# Altium footprint library ARM_Libary_DIL.PcbLib: 37 footprints (part 1 of 3)
Each footprint in its own frame and in the unit in brackets; x right, y up, seen from the top. Pads: shape width x height; smd on the part's side, far side on the other; paste and mask are expansions set on the pad; w line width, h text height; cw(c..) or ccw(c..) is an arc to the next point about the centre after c.
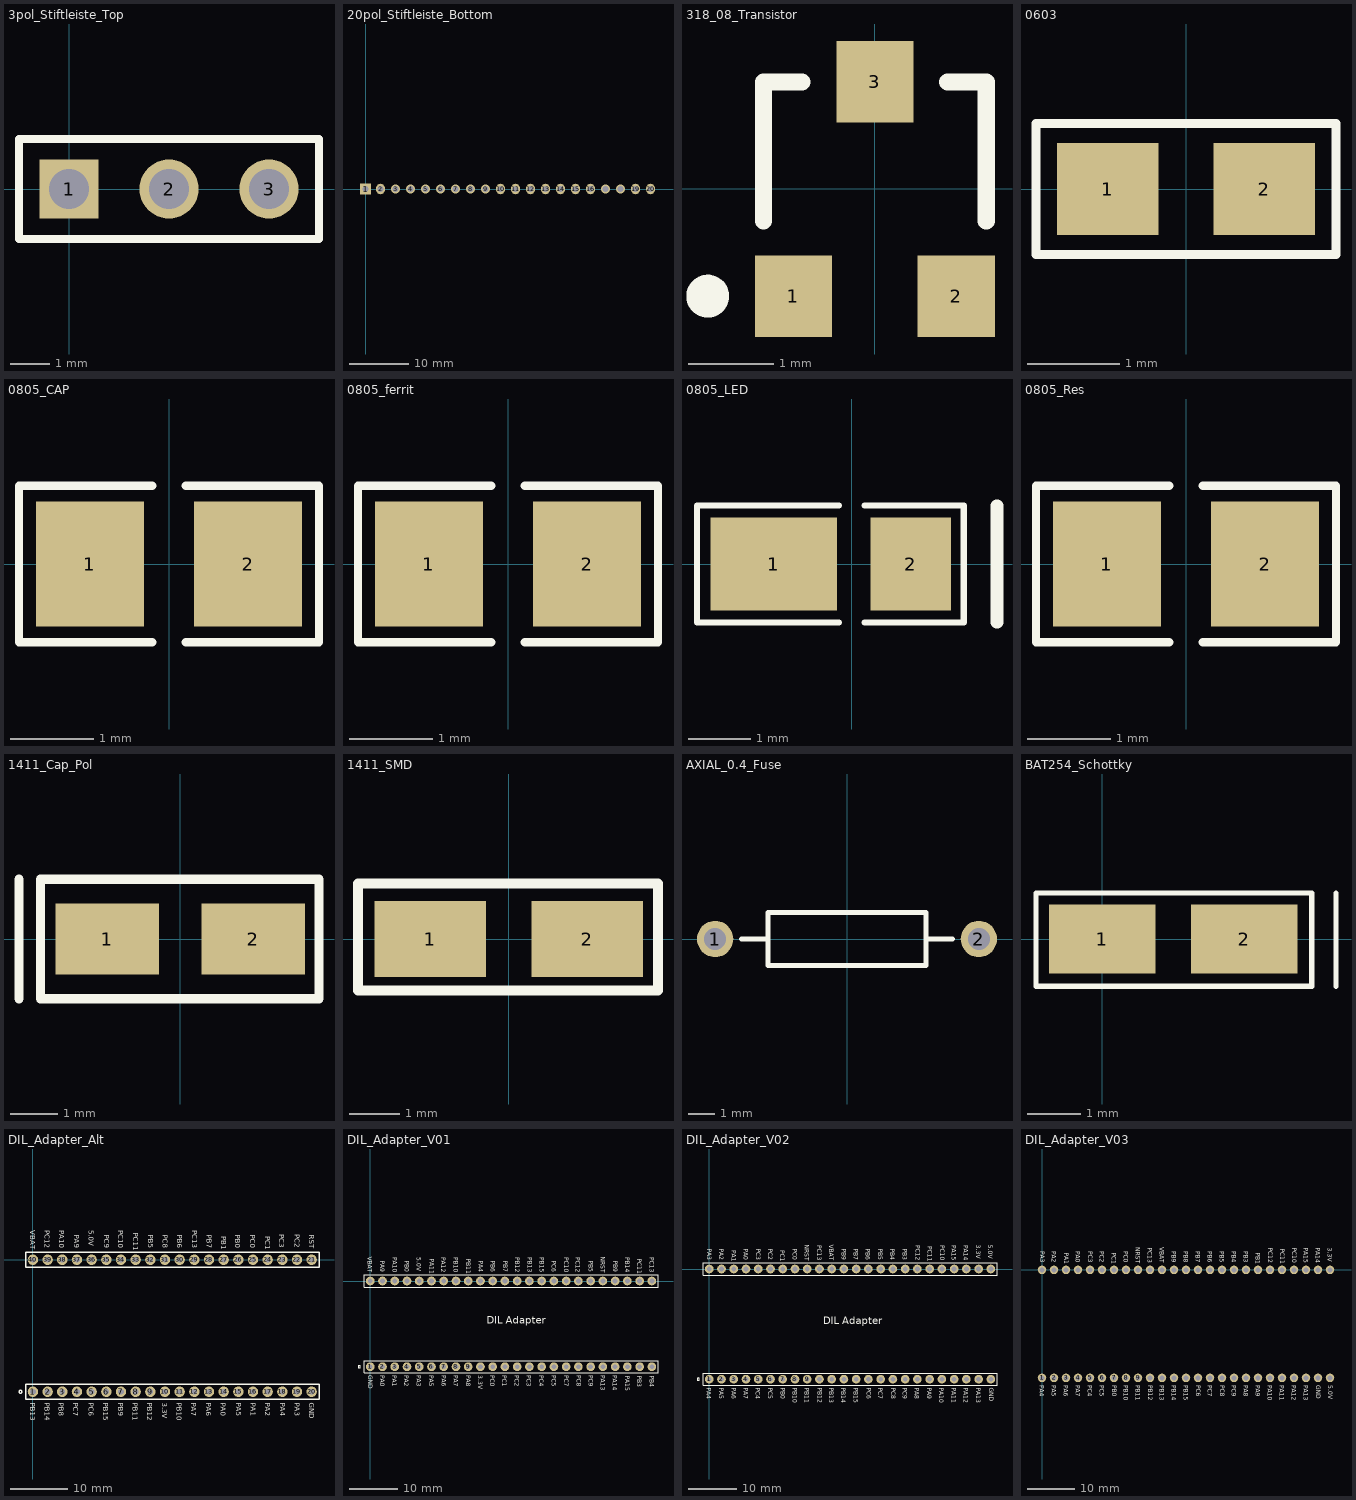
[diagram p0: the footprints below, top view; thin cyan lines are the x and y axes]

## 3pol_Stiftleiste_Top [mm]
pads (3):
  rect 1.5x1.5 hole 1.016: 1(0,0)
  round 1.5 hole 1.016: 2(2.54,0) 3(5.08,0)
Top Overlay:
  lines w0.2: -1.27,-1.27 6.35,-1.27 6.35,1.27 -1.27,1.27 -1.27,-1.27

## 20pol_Stiftleiste_Bottom [mm]
pads (20):
  rect 1.779x1.779 hole 1.016: 1(0,0)
  oval 1.5x1.779 hole 1.016: 2(2.54,0) 10(22.86,0) 11(25.4,0) 12(27.94,0) 13(30.48,0) 14(33.02,0) 15(35.56,0) 16(38.1,0) 19(45.72,0) 20(48.26,0)
  round 1.5 hole 1.016: 3(5.08,0) 4(7.62,0) 5(10.16,0) 6(12.7,0) 7(15.24,0) 8(17.78,0) 9(20.32,0) 17(40.64,0) 18(43.18,0)
Bottom Overlay:
  lines w0.2: -1.27,-1.27 49.53,-1.27 49.53,1.27 0.635,1.27 -1.27,1.27 -1.27,-1.27

## 318_08_Transistor [mm] "Transistor"
pads (3):
  rect 0.9x0.95 smd: 1(-0.95,-1.25) 2(0.95,-1.25) 3(0,1.25)
Top Overlay:
  circle w0.25: c-1.95,-1.25 r0.125
  lines w0.2: -1.3,-0.375 -1.3,1.25 -0.85,1.25 ; 0.85,1.25 1.3,1.25 1.3,-0.375

## 0603 [mm]
pads (2):
  rect 1.1x1 smd: 1(-0.85,0) 2(0.85,0)
Top Overlay:
  lines w0.1: -1.626,-0.711 1.626,-0.711 1.626,0.711 -1.626,0.711 -1.626,-0.711

## 0805_CAP [mm]
pads (2):
  rect 1.3x1.5 smd: 1(-0.95,0) 2(0.95,0)
Top Overlay:
  lines w0.1: -0.203,-0.94 -1.803,-0.94 -1.803,0.94 -0.203,0.94 ; 0.203,-0.94 1.803,-0.94 1.803,0.94 0.203,0.94

## 0805_ferrit [mm]
pads (2):
  rect 1.3x1.5 smd: 1(-0.95,0) 2(0.95,0)
Top Overlay:
  lines w0.1: -0.203,-0.94 -1.803,-0.94 -1.803,0.94 -0.203,0.94 ; 0.203,-0.94 1.803,-0.94 1.803,0.94 0.203,0.94

## 0805_LED [mm]
pads (2):
  rect 2.035x1.5 smd: 1(-1.255,0)
  rect 1.3x1.5 smd: 2(0.95,0)
Top Overlay:
  lines w0.1: -0.203,-0.94 -2.489,-0.94 -2.489,0.94 -0.203,0.94 ; 0.203,-0.94 1.803,-0.94 1.803,0.94 0.203,0.94
  lines w0.203: 2.337,-0.94 2.337,0.94

## 0805_Res [mm]
pads (2):
  rect 1.3x1.5 smd: 1(-0.95,0) 2(0.95,0)
Top Overlay:
  lines w0.1: -0.203,-0.94 -1.803,-0.94 -1.803,0.94 -0.203,0.94 ; 0.203,-0.94 1.803,-0.94 1.803,0.94 0.203,0.94

## 1411_Cap_Pol [mm]
pads (2):
  rect 2.2x1.5 smd: 1(-1.55,0) 2(1.55,0)
Top Overlay:
  lines w0.2: -3.429,-1.27 -3.429,1.27 ; -2.972,-1.27 -2.972,1.27 -2.469,1.27 -1.919,1.27 -1.645,1.27 1.264,1.27 1.983,1.27 2.946,1.27 2.946,-1.27 1.187,-1.27 -1.213,-1.27 -2.972,-1.27

## 1411_SMD [mm]
pads (2):
  rect 2.2x1.5 smd: 1(-1.55,0) 2(1.55,0)
Top Overlay:
  lines w0.2: -2.972,-1.016 -2.972,1.092 2.946,1.092 2.946,-1.016 -2.972,-1.016

## AXIAL_0.4_Fuse [mm]
pads (2):
  round 1.4 hole 0.85: 1(-5.08,0) 2(5.08,0)
Top Overlay:
  lines w0.2: -4.064,0 -3.048,0 ; 3.048,0 4.064,0 ; -3.048,-1.016 -3.048,1.016 3.048,1.016 3.048,-1.016 -3.048,-1.016

## BAT254_Schottky [mm]
pads (2):
  rect 2x1.3 smd: 1(0,0) 2(2.667,0)
Top Overlay:
  lines w0.1: 4.394,-0.889 4.394,0.864 ; -1.245,-0.889 3.937,-0.889 3.937,0.864 -1.245,0.864 -1.245,-0.889

## DIL_Adapter_Alt [mm] "DIL_Adapter"
pads (40):
  round 1.8 hole 1: 1(0,-22.86) 2(2.54,-22.86) 3(5.08,-22.86) 4(7.62,-22.86) 5(10.16,-22.86) 6(12.7,-22.86) 7(15.24,-22.86) 8(17.78,-22.86) 9(20.32,-22.86) 10(22.86,-22.86) 11(25.4,-22.86) 12(27.94,-22.86) 13(30.48,-22.86) 14(33.02,-22.86) 15(35.56,-22.86) 16(38.1,-22.86) 17(40.64,-22.86) 18(43.18,-22.86) 19(45.72,-22.86) 20(48.26,-22.86) 21(48.26,0) 22(45.72,0) 23(43.18,0) 24(40.64,0) 25(38.1,0) 26(35.56,0) 27(33.02,0) 28(30.48,0) 29(27.94,0) 30(25.4,0) 31(22.86,0) 32(20.32,0) 33(17.78,0) 34(15.24,0) 35(12.7,0) 36(10.16,0) 37(7.62,0) 38(5.08,0) 39(2.54,0) 40(0,0)
Top Overlay:
  circle w0.254: c-2.159,-22.86 r0.254
  lines w0.254: -1.27,-24.13 49.53,-24.13 ; -1.27,-24.13 -1.27,-21.59 49.53,-21.59 49.53,-24.13 ; -1.27,-24.13 49.53,-24.13 ; -1.27,1.27 49.53,1.27 ; -1.27,1.27 -1.27,-1.27 49.53,-1.27 49.53,1.27 ; -1.27,1.27 49.53,1.27
  text "PB8" at 4.445,-24.765 h0.89
  text "VBAT" at -0.508,5.08 h0.89
  text "PC12" at 2.032,5.08 h0.89
  text "PA10" at 4.572,5.08 h0.89
  text "PA9" at 7.112,4.318 h0.89
  text "5.0V" at 9.652,5.08 h0.89
  text "PC9" at 12.319,4.318 h0.89
  text "PC11" at 17.399,4.699 h0.89
  text "PC8" at 22.479,4.318 h0.89
  text "PB5" at 19.939,4.318 h0.89
  text "PB6" at 25.019,4.318 h0.89
  text "PC13" at 27.559,5.08 h0.89
  text "PB7" at 30.099,4.318 h0.89
  text "PB1" at 32.639,4.064 h0.89
  text "PB0" at 35.052,4.318 h0.89
  text "PC0" at 37.592,4.318 h0.89
  text "PC3" at 42.672,4.445 h0.89
  text "PC1" at 40.259,4.064 h0.89
  text "PC2" at 45.339,4.445 h0.89
  text "RST" at 47.879,4.318 h0.89
  text "PC10" at 14.732,5.08 h0.89
  text "PA5" at 35.179,-24.765 h0.89
  text "PB13" at -0.508,-24.765 h0.89
  text "PB14" at 2.032,-24.765 h0.89
  text "PC6" at 9.652,-24.765 h0.89
  text "PC7" at 6.985,-24.765 h0.89
  text "PB15" at 12.192,-24.765 h0.89
  text "PB9" at 14.732,-24.765 h0.89
  text "PB11" at 17.272,-24.765 h0.89
  text "PB12" at 19.812,-24.765 h0.89
  text "3.3V" at 22.352,-24.765 h0.89
  text "PB10" at 24.892,-24.765 h0.89
  text "PA6" at 29.972,-24.765 h0.89
  text "PA7" at 27.432,-24.765 h0.89
  text "PA0" at 32.512,-24.765 h0.89
  text "PA1" at 37.719,-24.765 h0.89
  text "PA2" at 40.259,-24.765 h0.89
  text "PA4" at 42.799,-24.765 h0.89
  text "PA3" at 45.339,-24.765 h0.89
  text "GND" at 47.879,-24.765 h0.89

## DIL_Adapter_V01 [mm] "DIL_Adapter"
pads (48):
  round 1.8 hole 1: 1(0,-17.78) 2(2.54,-17.78) 3(5.08,-17.78) 4(7.62,-17.78) 5(10.16,-17.78) 6(12.7,-17.78) 7(15.24,-17.78) 8(17.78,-17.78) 9(20.32,-17.78) 10(22.86,-17.78) 11(25.4,-17.78) 12(27.94,-17.78) 13(30.48,-17.78) 14(33.02,-17.78) 15(35.56,-17.78) 16(38.1,-17.78) 17(40.64,-17.78) 18(43.18,-17.78) 19(45.72,-17.78) 20(48.26,-17.78) 21(50.8,-17.78) 22(53.34,-17.78) 23(55.88,-17.78) 24(58.42,-17.78) 25(58.42,0) 26(55.88,0) 27(53.34,0) 28(50.8,0) 29(48.26,0) 30(45.72,0) 31(43.18,0) 32(40.64,0) 33(38.1,0) 34(35.56,0) 35(33.02,0) 36(30.48,0) 37(27.94,0) 38(25.4,0) 39(22.86,0) 40(20.32,0) 41(17.78,0) 42(15.24,0) 43(12.7,0) 44(10.16,0) 45(7.62,0) 46(5.08,0) 47(2.54,0) 48(0,0)
Top Overlay:
  circle w0.254: c-2.286,-17.78 r0.254
  lines w0.254: -1.27,-19.05 49.53,-19.05 ; -1.27,-19.05 -1.27,-16.51 49.53,-16.51 59.69,-16.51 59.69,-19.05 ; -1.27,-19.05 49.53,-19.05 ; -1.27,-1.27 49.53,-1.27 59.69,-1.27 59.69,1.27 49.53,1.27 ; -1.27,-1.27 -1.27,1.27 ; -1.27,-1.27 -1.27,1.27 ; -1.27,1.27 49.53,1.27 ; -1.27,1.27 49.53,1.27 ; 49.53,-19.05 59.69,-19.05 ; 49.53,-19.05 59.69,-19.05
  text "NRST" at 47.8,5.05 h0.89
  text "DIL Adapter" at 24.13,-8.89 h1.52
  text "PB13" at 32.64,4.9 h0.89
  text "VBAT" at -0.508,5.047 h0.89
  text "PA9" at 2.125,4.167 h0.89
  text "PA10" at 4.652,4.922 h0.89
  text "PB0" at 7.2,4.167 h0.89
  text "5.0V" at 9.652,4.922 h0.89
  text "PA11" at 12.319,4.621 h0.89
  text "PB10" at 17.299,4.916 h0.89
  text "PA4" at 22.479,4.171 h0.89
  text "PB11" at 19.939,4.61 h0.89
  text "PB6" at 25.019,4.168 h0.89
  text "PB7" at 27.559,4.167 h0.89
  text "PA12" at 14.732,4.922 h0.89
  text "PB12" at 30.099,4.91 h0.89
  text "PB15" at 35.179,4.906 h0.89
  text "PC6" at 37.692,4.168 h0.89
  text "PC12" at 42.672,4.912 h0.89
  text "PC10" at 40.259,4.906 h0.89
  text "PB5" at 45.339,4.162 h0.89
  text "PB9" at 50.375,4.175 h0.89
  text "PB14" at 52.88,4.9 h0.89
  text "PC11" at 55.42,4.625 h0.89
  text "PC13" at 57.96,4.9 h0.89
  text "PB4" at 58,-19.62 h0.89
  text "PB3" at 55.4,-19.62 h0.89
  text "PA15" at 52.9,-19.62 h0.89
  text "PA14" at 50.3,-19.52 h0.89
  text "PA13" at 47.8,-19.52 h0.89
  text "PC9" at 45.3,-19.52 h0.89
  text "PC8" at 42.8,-19.52 h0.89
  text "PC7" at 40.2,-19.525 h0.89
  text "PC5" at 37.7,-19.52 h0.89
  text "PC3" at 32.5,-19.525 h0.89
  text "PC1" at 27.4,-19.52 h0.89
  text "PC2" at 30,-19.525 h0.89
  text "PC0" at 24.9,-19.525 h0.89
  text "3.3V" at 22.4,-19.52 h0.89
  text "PA8" at 19.9,-19.525 h0.89
  text "PA7" at 17.3,-19.525 h0.89
  text "PA6" at 14.8,-19.525 h0.89
  text "PA5" at 12.2,-19.52 h0.89
  text "PA2" at 7.1,-19.525 h0.89
  text "PA3" at 9.6,-19.525 h0.89
  text "PA0" at 2.1,-19.52 h0.89
  text "GND" at -0.4,-19.525 h0.89
  text "PC4" at 35.1,-19.52 h0.89
  text "PA1" at 4.6,-19.525 h0.89

## DIL_Adapter_V02 [mm] "DIL_Adapter"
pads (48):
  round 1.8 hole 1: 1(0,-22.86) 2(2.54,-22.86) 3(5.08,-22.86) 4(7.62,-22.86) 5(10.16,-22.86) 6(12.7,-22.86) 7(15.24,-22.86) 8(17.78,-22.86) 9(20.32,-22.86) 10(22.86,-22.86) 11(25.4,-22.86) 12(27.94,-22.86) 13(30.48,-22.86) 14(33.02,-22.86) 15(35.56,-22.86) 16(38.1,-22.86) 17(40.64,-22.86) 18(43.18,-22.86) 19(45.72,-22.86) 20(48.26,-22.86) 21(50.8,-22.86) 22(53.34,-22.86) 23(55.88,-22.86) 24(58.42,-22.86) 25(58.42,0) 26(55.88,0) 27(53.34,0) 28(50.8,0) 29(48.26,0) 30(45.72,0) 31(43.18,0) 32(40.64,0) 33(38.1,0) 34(35.56,0) 35(33.02,0) 36(30.48,0) 37(27.94,0) 38(25.4,0) 39(22.86,0) 40(20.32,0) 41(17.78,0) 42(15.24,0) 43(12.7,0) 44(10.16,0) 45(7.62,0) 46(5.08,0) 47(2.54,0) 48(0,0)
Top Overlay:
  circle w0.254: c-2.286,-22.86 r0.254
  lines w0.254: -1.27,-24.13 49.53,-24.13 ; -1.27,-24.13 -1.27,-21.59 49.53,-21.59 59.69,-21.59 59.69,-24.13 ; -1.27,-24.13 49.53,-24.13 ; -1.27,-1.27 49.53,-1.27 59.69,-1.27 59.69,1.27 49.53,1.27 ; -1.27,-1.27 -1.27,1.27 ; -1.27,-1.27 -1.27,1.27 ; -1.27,1.27 49.53,1.27 ; -1.27,1.27 49.53,1.27 ; 49.53,-24.13 59.69,-24.13 ; 49.53,-24.13 59.69,-24.13
  text "DIL Adapter" at 23.698,-11.43 h1.52
  text "PB13" at 24.892,-24.638 h0.89
  text "PA9" at 45.212,-24.638 h0.89
  text "PA10" at 47.752,-24.638 h0.89
  text "PB0" at 14.834,-24.638 h0.89
  text "PA11" at 50.292,-24.638 h0.89
  text "PB10" at 17.348,-24.638 h0.89
  text "PA4" at -0.508,-24.638 h0.89
  text "PB11" at 19.812,-24.638 h0.89
  text "PA12" at 52.832,-24.638 h0.89
  text "PB12" at 22.479,-24.638 h0.89
  text "PB15" at 29.972,-24.638 h0.89
  text "PC6" at 32.639,-24.638 h0.89
  text "PB14" at 27.432,-24.638 h0.89
  text "PA13" at 55.372,-24.638 h0.89
  text "PC9" at 40.132,-24.638 h0.89
  text "PC8" at 37.719,-24.638 h0.89
  text "PC7" at 35.052,-24.638 h0.89
  text "PC5" at 12.243,-24.638 h0.89
  text "PA8" at 42.672,-24.638 h0.89
  text "PA7" at 7.188,-24.638 h0.89
  text "PA6" at 4.623,-24.638 h0.89
  text "PA5" at 2.032,-24.638 h0.89
  text "GND" at 58.039,-24.638 h0.89
  text "PC4" at 9.652,-24.638 h0.89
  text "NRST" at 19.812,5.08 h0.89
  text "VBAT" at 24.892,5.049 h0.89
  text "5.0V" at 57.912,4.984 h0.89
  text "PB6" at 32.512,4.191 h0.89
  text "PB7" at 29.972,4.191 h0.89
  text "PC12" at 42.799,4.953 h0.89
  text "PC10" at 47.879,4.953 h0.89
  text "PB5" at 35.052,4.191 h0.89
  text "PB9" at 27.508,4.191 h0.89
  text "PC11" at 45.339,4.699 h0.89
  text "PC13" at 22.428,4.953 h0.89
  text "PB4" at 37.592,4.191 h0.89
  text "PB3" at 40.132,4.191 h0.89
  text "PA15" at 50.292,4.9 h0.89
  text "PA14" at 52.832,4.953 h0.89
  text "PC3" at 9.779,4.191 h0.89
  text "PC1" at 14.732,3.937 h0.89
  text "PC2" at 12.192,4.191 h0.89
  text "PC0" at 17.272,4.191 h0.89
  text "3.3V" at 55.372,4.984 h0.89
  text "PA2" at 2.032,4.191 h0.89
  text "PA3" at -0.381,4.191 h0.89
  text "PA0" at 7.188,4.191 h0.89
  text "PA1" at 4.699,3.937 h0.89

## DIL_Adapter_V03 [mm] "DIL_Adapter"
pads (50):
  round 1.8 hole 1: 1(0,-22.86) 2(2.54,-22.86) 3(5.08,-22.86) 4(7.62,-22.86) 5(10.16,-22.86) 6(12.7,-22.86) 7(15.24,-22.86) 8(17.78,-22.86) 9(20.32,-22.86) 10(22.86,-22.86) 11(25.4,-22.86) 12(27.94,-22.86) 13(30.48,-22.86) 14(33.02,-22.86) 15(35.56,-22.86) 16(38.1,-22.86) 17(40.64,-22.86) 18(43.18,-22.86) 19(45.72,-22.86) 20(48.26,-22.86) 21(50.8,-22.86) 22(53.34,-22.86) 23(55.88,-22.86) 24(58.42,-22.86) 25(60.96,-22.86) 26(60.96,0) 27(58.42,0) 28(55.88,0) 29(53.34,0) 30(50.8,0) 31(48.26,0) 32(45.72,0) 33(43.18,0) 34(40.64,0) 35(38.1,0) 36(35.56,0) 37(33.02,0) 38(30.48,0) 39(27.94,0) 40(25.4,0) 41(22.86,0) 42(20.32,0) 43(17.78,0) 44(15.24,0) 45(12.7,0) 46(10.16,0) 47(7.62,0) 48(5.08,0) 49(2.54,0) 50(0,0)
Top Overlay:
  text "PB1" at 45.212,3.683 h0.89
  text "PB8" at 29.972,3.937 h0.89
  text "PA1" at 4.699,3.683 h0.89
  text "PA0" at 7.188,3.937 h0.89
  text "PA3" at -0.381,3.937 h0.89
  text "PA2" at 2.032,3.937 h0.89
  text "3.3V" at 60.452,4.73 h0.89
  text "PC0" at 17.272,3.937 h0.89
  text "PC2" at 12.192,3.937 h0.89
  text "PC1" at 14.732,3.683 h0.89
  text "PC3" at 9.779,3.937 h0.89
  text "PA14" at 57.912,4.699 h0.89
  text "PA15" at 55.372,4.646 h0.89
  text "PB3" at 42.672,3.937 h0.89
  text "PB4" at 40.132,3.937 h0.89
  text "PC13" at 22.428,4.699 h0.89
  text "PC11" at 50.419,4.445 h0.89
  text "PB9" at 27.508,3.937 h0.89
  text "PB5" at 37.592,3.937 h0.89
  text "PC10" at 52.959,4.699 h0.89
  text "PC12" at 47.879,4.699 h0.89
  text "PB7" at 32.512,3.937 h0.89
  text "PB6" at 35.052,3.937 h0.89
  text "5.0V" at 60.579,-24.384 h0.89
  text "VBAT" at 24.892,4.795 h0.89
  text "NRST" at 19.812,4.826 h0.89
  text "PC4" at 9.652,-24.384 h0.89
  text "GND" at 58.039,-24.384 h0.89
  text "PA5" at 2.032,-24.384 h0.89
  text "PA6" at 4.623,-24.384 h0.89
  text "PA7" at 7.188,-24.384 h0.89
  text "PA8" at 42.672,-24.384 h0.89
  text "PC5" at 12.243,-24.384 h0.89
  text "PC7" at 35.052,-24.384 h0.89
  text "PC8" at 37.719,-24.384 h0.89
  text "PC9" at 40.132,-24.384 h0.89
  text "PA13" at 55.372,-24.384 h0.89
  text "PB14" at 27.432,-24.384 h0.89
  text "PC6" at 32.639,-24.384 h0.89
  text "PB15" at 29.972,-24.384 h0.89
  text "PB12" at 22.479,-24.384 h0.89
  text "PA12" at 52.832,-24.384 h0.89
  text "PB11" at 19.812,-24.384 h0.89
  text "PA4" at -0.508,-24.384 h0.89
  text "PB10" at 17.348,-24.384 h0.89
  text "PA11" at 50.292,-24.384 h0.89
  text "PB0" at 14.834,-24.384 h0.89
  text "PA10" at 47.752,-24.384 h0.89
  text "PA9" at 45.212,-24.384 h0.89
  text "PB13" at 24.892,-24.384 h0.89
Bottom Overlay:
  lines w0.254: -1.27,-24.13 -1.27,-21.59 62.23,-21.59 62.23,-24.13 -1.27,-24.13 ; -1.27,-1.27 62.23,-1.27 62.23,1.27 -1.27,1.27 -1.27,-1.27